# Altium footprint library 核心板封装库.PcbLib: 2 footprints
Each footprint in its own frame and in the unit in brackets; x right, y up, seen from the top. Pads: shape width x height; smd on the part's side, far side on the other; paste and mask are expansions set on the pad; w line width, h text height; cw(c..) or ccw(c..) is an arc to the next point about the centre after c.
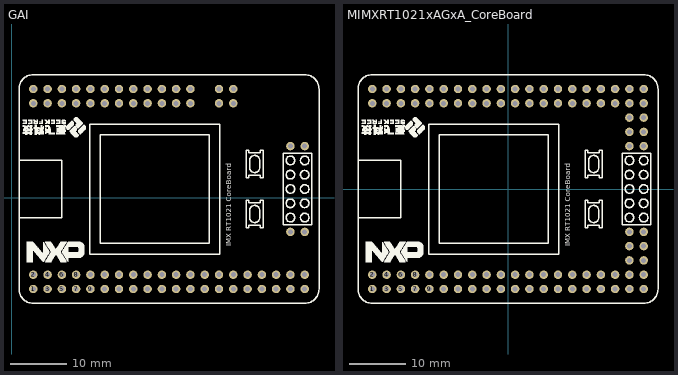
[diagram p0: the footprints below, top view; thin cyan lines are the x and y axes]

## GAI [mm]
pads (72):
  round 1.5 hole 0.9: 1(3.827,-16.2) 2(3.827,-13.66) 3(6.367,-16.2) 4(6.367,-13.66) 5(8.907,-16.2) 6(8.907,-13.66) 7(11.447,-16.2) 8(11.447,-13.66) 9(13.987,-16.2) 10(13.987,-13.66) 11(16.527,-16.2) 12(16.527,-13.66) 13(19.067,-16.2) 14(19.067,-13.66) 15(21.607,-16.2) 16(21.607,-13.66) 17(24.147,-16.2) 18(24.147,-13.66) 19(26.687,-16.2) 20(26.687,-13.66) 21(29.227,-16.2) 22(29.227,-13.66) 23(31.767,-16.2) 24(31.767,-13.66) 25(34.307,-16.2) 26(34.307,-13.66) 27(36.847,-16.2) 28(36.847,-13.66) 29(39.387,-16.2) 30(39.387,-13.66) 31(41.927,-16.2) 32(41.927,-13.66) 33(44.467,-16.2) 34(44.467,-13.66) 35(47.007,-16.2) 36(47.007,-13.66) 37(49.547,-16.2) 38(49.547,-13.66) 39(52.087,-16.2) 40(52.087,-13.66) 45(49.547,-6.04) 46(52.087,-6.04) 47(52.087,9.2) 48(49.547,9.2) 63(39.387,16.82) 64(39.387,19.36) 65(36.847,16.82) 66(36.847,19.36) 69(31.767,16.82) 70(31.767,19.36) 71(29.227,16.82) 72(29.227,19.36) 73(26.687,16.82) 74(26.687,19.36) 75(24.147,16.82) 76(24.147,19.36) 77(21.607,16.82) 78(21.607,19.36) 79(19.067,16.82) 80(19.067,19.36) 81(16.527,16.82) 82(16.527,19.36) 83(13.987,16.82) 84(13.987,19.36) 85(11.447,16.82) 86(11.447,19.36) 87(8.907,16.82) 88(8.907,19.36) 89(6.367,16.82) 90(6.367,19.36) 91(3.827,16.82) 92(3.827,19.36)
Top Overlay:
  drawing of 1185 lines, arcs and shapes, not listed
  text "IMX RT1021 CoreBoard" at 39.387,-8.58 h1.52

## MIMXRT1021xAGxA_CoreBoard [mm] "逐飞科技i.MX RT1021核心板整体原理，可直接使用"
pads (92):
  round 1.5 hole 0.9: 1(-24.13,-17.78) 2(-24.13,-15.24) 3(-21.59,-17.78) 4(-21.59,-15.24) 5(-19.05,-17.78) 6(-19.05,-15.24) 7(-16.51,-17.78) 8(-16.51,-15.24) 9(-13.97,-17.78) 10(-13.97,-15.24) 11(-11.43,-17.78) 12(-11.43,-15.24) 13(-8.89,-17.78) 14(-8.89,-15.24) 15(-6.35,-17.78) 16(-6.35,-15.24) 17(-3.81,-17.78) 18(-3.81,-15.24) 19(-1.27,-17.78) 20(-1.27,-15.24) 21(1.27,-17.78) 22(1.27,-15.24) 23(3.81,-17.78) 24(3.81,-15.24) 25(6.35,-17.78) 26(6.35,-15.24) 27(8.89,-17.78) 28(8.89,-15.24) 29(11.43,-17.78) 30(11.43,-15.24) 31(13.97,-17.78) 32(13.97,-15.24) 33(16.51,-17.78) 34(16.51,-15.24) 35(19.05,-17.78) 36(19.05,-15.24) 37(21.59,-17.78) 38(21.59,-15.24) 39(24.13,-17.78) 40(24.13,-15.24) 41(21.59,-12.7) 42(24.13,-12.7) 43(21.59,-10.16) 44(24.13,-10.16) 45(21.59,-7.62) 46(24.13,-7.62) 47(24.13,7.62) 48(21.59,7.62) 49(24.13,10.16) 50(21.59,10.16) 51(24.13,12.7) 52(21.59,12.7) 53(24.13,15.24) 54(24.13,17.78) 55(21.59,15.24) 56(21.59,17.78) 57(19.05,15.24) 58(19.05,17.78) 59(16.51,15.24) 60(16.51,17.78) 61(13.97,15.24) 62(13.97,17.78) 63(11.43,15.24) 64(11.43,17.78) 65(8.89,15.24) 66(8.89,17.78) 67(6.35,15.24) 68(6.35,17.78) 69(3.81,15.24) 70(3.81,17.78) 71(1.27,15.24) 72(1.27,17.78) 73(-1.27,15.24) 74(-1.27,17.78) 75(-3.81,15.24) 76(-3.81,17.78) 77(-6.35,15.24) 78(-6.35,17.78) 79(-8.89,15.24) 80(-8.89,17.78) 81(-11.43,15.24) 82(-11.43,17.78) 83(-13.97,15.24) 84(-13.97,17.78) 85(-16.51,15.24) 86(-16.51,17.78) 87(-19.05,15.24) 88(-19.05,17.78) 89(-21.59,15.24) 90(-21.59,17.78) 91(-24.13,15.24) 92(-24.13,17.78)
Top Overlay:
  drawing of 1185 lines, arcs and shapes, not listed
  text "IMX RT1021 CoreBoard" at 11.43,-10.16 h1.52